# Altium footprint library biblioteca_pcb_micro.PcbLib: 27 footprints (part 2 of 2)
Each footprint in its own frame and in the unit in brackets; x right, y up, seen from the top. Pads: shape width x height; smd on the part's side, far side on the other; paste and mask are expansions set on the pad; w line width, h text height; cw(c..) or ccw(c..) is an arc to the next point about the centre after c.
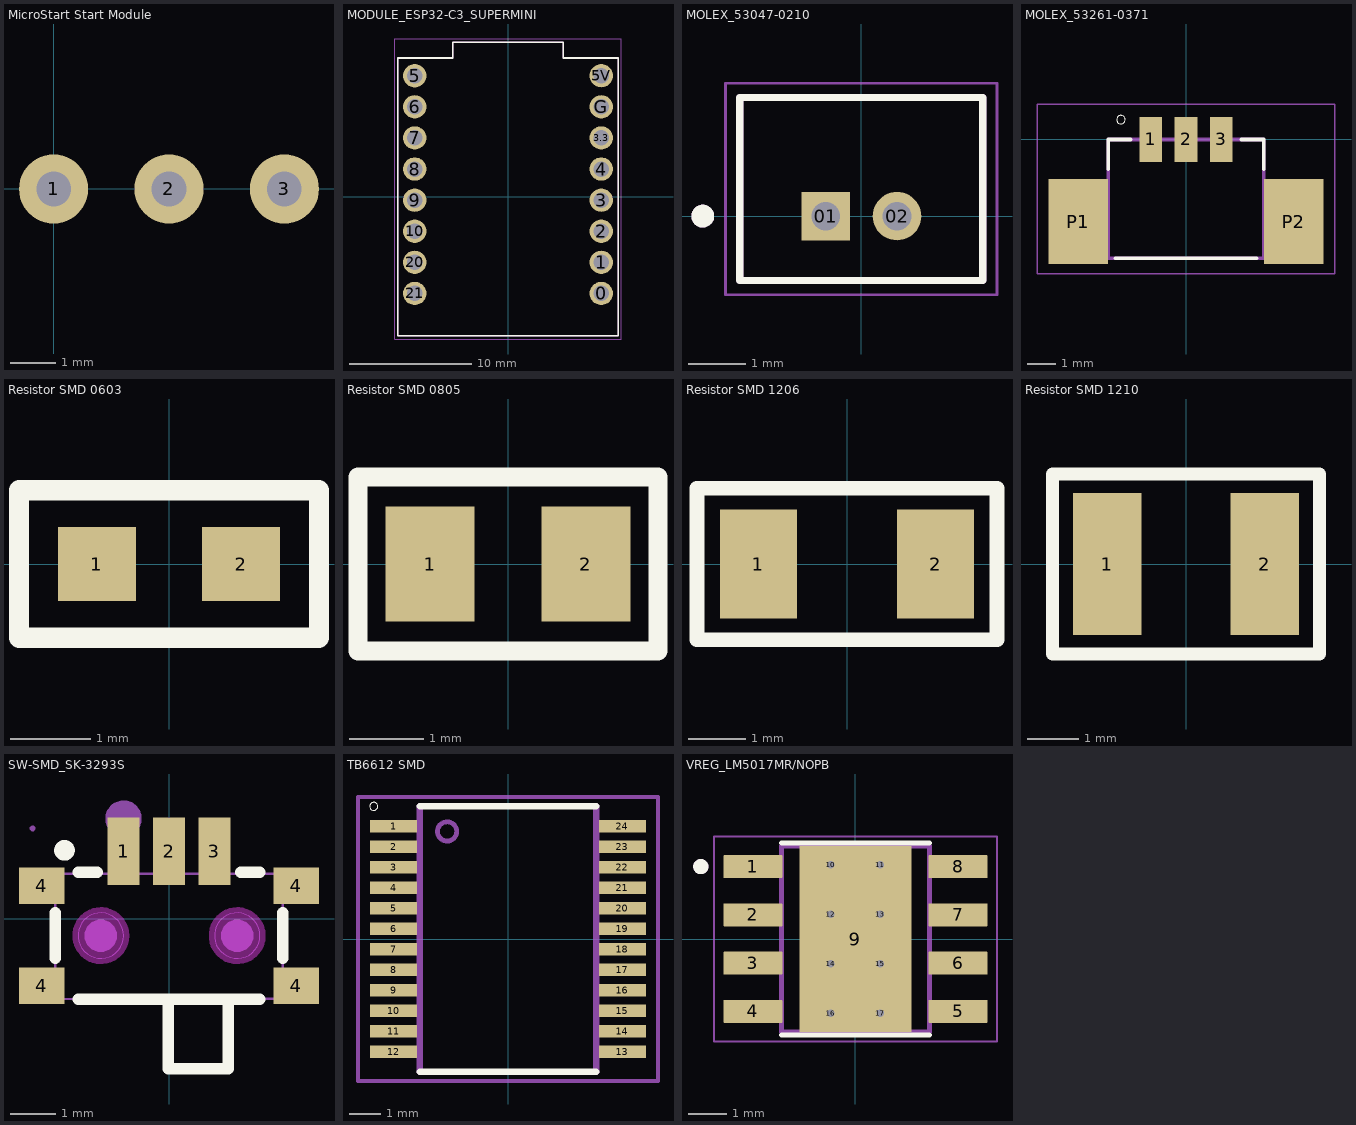
[diagram p1: the footprints below, top view; thin cyan lines are the x and y axes]

## MicroStart Start Module [mil] "Módulo Start da Jsumo"
pads (3):
  round 60 hole 30: 1(0,0) 2(100,0) 3(200,0)
Top Designator:
  text ".Designator" at -261.66,176.05 h60
3D body "microstart-cad.step": height 558.43, standoff 433.07, extent -266.73,-55.75 343.22,447.83
3D body "PBS-3.step": height 334.65, standoff -118.11, extent -50,-50 250,50
3D body "PLS-3.step": height 551.18, standoff 94.49, extent -50,-50 250,50

## MODULE_ESP32-C3_SUPERMINI [mm]
height 4.2
pads (16):
  round 1.905 hole 1.27: 0(7.62,-7.88) 1(7.62,-5.34) 2(7.62,-2.8) 3(7.62,-0.26) 3.3(7.62,4.82) 4(7.62,2.28) 5(-7.62,9.9) 5V(7.62,9.906) 6(-7.62,7.36) 7(-7.62,4.82) 8(-7.62,2.28) 9(-7.62,-0.26) 10(-7.62,-2.8) 20(-7.62,-5.34) 21(-7.62,-7.88) G(7.62,7.36)
Top Overlay:
  lines w0.127: -9,-11.35 -9,11.35 -4.5,11.35 -4.5,12.65 4.5,12.65 4.5,11.35 9,11.35 9,-11.35 -9,-11.35
Mechanical 13:
  lines w0.127: -9,-11.35 -9,11.35 -4.5,11.35 -4.5,12.65 4.5,12.65 4.5,11.35 9,11.35 9,-11.35 -9,-11.35
Mechanical 15:
  lines w0.05: -9.25,-11.6 -9.25,12.9 9.25,12.9 9.25,-11.6 -9.25,-11.6
3D body "1_Dupont_Stiftleiste v6.step": height 8.45, standoff -2.75, extent -8.815,-9.517 -6.425,11.303
3D body "1_Dupont_Stiftleiste v6.step": height 8.45, standoff -2.75, extent 6.298,-9.517 8.688,11.303
3D body "ESP32-C3 SuperMini_TH--3DModel-STEP-56544.STEP": height 12.59, standoff 8.43, extent -8.983,-11.3 9.017,12.7

## MOLEX_53047-0210 [mm]
pads (2):
  rect 0.85x0.85 / inner round 0.85 / far side rect 0.85x0.85 hole 0.5: 01(-0.625,0)
  round 0.85 hole 0.5: 02(0.625,0)
Top Overlay:
  circle w0.2: c-2.775,0 r0.1
  lines w0.127: -2.125,-1.125 2.125,-1.125 2.125,2.075 -2.125,2.075 -2.125,-1.125
Mechanical 13:
  circle w0.2: c-2.775,0 r0.1
  lines w0.127: -2.125,-1.125 2.125,-1.125 2.125,2.075 -2.125,2.075 -2.125,-1.125
Mechanical 15:
  lines w0.05: -2.375,-1.375 2.375,-1.375 2.375,2.325 -2.375,2.325 -2.375,-1.375

## MOLEX_53261-0371 [mm]
pads (5):
  rect 0.8x1.6 smd: 1(-1.25,0) 2(0,0) 3(1.25,0)
  rect 2.1x3 smd: P1(-3.8,-2.9) P2(3.8,-2.9)
Top Overlay:
  circle w0: c-2.3,0.7 r0.15
  lines w0.127: -2.75,-1.05 -2.75,0 -1.95,0 ; -2.5,-4.2 2.5,-4.2 ; 1.95,0 2.75,0 2.75,-1.05
Mechanical 13:
  lines w0.127: -2.75,-4.2 2.75,-4.2 2.75,0 -2.75,0 -2.75,-4.2
Mechanical 15:
  lines w0.05: -5.25,-4.75 5.25,-4.75 5.25,1.25 -5.25,1.25 -5.25,-4.75
3D body "step_temp.STEP": height 0.97, standoff -4.23, extent -4.45,-1.6 4.45,1.8

## Resistor SMD 0603 [mm]
height 0.9
pads (2):
  rect 0.98x0.92 smd: 1(-0.9,0) 2(0.9,0)
Top Overlay:
  lines w0.254: -1.875,-0.923 -1.875,0.923 1.875,0.923 1.875,-0.923 -1.875,-0.923
Top Designator:
  text ".Designator" at -7.618,-0.508 h1.52
3D body "Resistor SMD 0603.STEP": height 0.45, standoff 0, extent -0.8,-0.4 0.8,0.4

## Resistor SMD 0805 [mm]
height 0.9
pads (2):
  rect 1.2x1.55 smd: 1(-1.05,0) 2(1.05,0)
Top Overlay:
  lines w0.254: -2.023,-1.173 -2.023,1.173 2.023,1.173 2.023,-1.173 -2.023,-1.173
Top Designator:
  text ".Designator" at -7.618,-0.508 h1.52
3D body "Resistor SMD 0805.STEP": height 0.55, standoff 0, extent -1,-0.625 1,0.625

## Resistor SMD 1206 [mm]
height 0.9
pads (2):
  rect 1.35x1.9 smd: 1(-1.55,0) 2(1.55,0)
Top Overlay:
  lines w0.254: -2.623,-1.323 -2.623,1.323 2.623,1.323 2.623,-1.323 -2.623,-1.323
Top Designator:
  text ".Designator" at -7.618,-0.508 h1.52
3D body "Resistor SMD 1206.STEP": height 0.55, standoff 0, extent -1.55,-0.775 1.55,0.775

## Resistor SMD 1210 [mm]
height 0.9
pads (2):
  rect 1.35x2.8 smd: 1(-1.55,0) 2(1.55,0)
Top Overlay:
  lines w0.254: -2.623,-1.773 2.623,-1.773 2.623,1.773 -2.623,1.773 -2.623,-1.773
Top Designator:
  text ".Designator" at -7.618,-0.508 h1.52
3D body "Resistor SMD 1210.STEP": height 0.55, standoff 0, extent -1.55,-1.3 1.55,1.3

## SW-SMD_SK-3293S [mm]
pads (7):
  rect 0.7x1.49 smd: 1(-1,1.477) 2(0,1.477) 3(1,1.477)
  rect 1x0.8 smd: 4(-2.8,-1.478) 4(-2.8,0.723) 4(2.8,-1.478) 4(2.8,0.723)
Top Overlay:
  circle w0.254: c-2.3,1.5 r0.1
  lines w0.254: -2.5,-0.877 -2.5,0.123 ; -2,-1.777 2,-1.777 ; -2,1.023 -1.581,1.023 ; -0.018,-1.777 -0.018,-3.3 1.3,-3.3 1.3,-1.777 ; 1.581,1.023 2,1.023 ; 2.5,-0.877 2.5,0.123
Keep-Out Layer:
  board cut-out: -1,-0.377 -1,-0.278 -1.076,-0.094 -1.217,0.046 -1.401,0.123 -1.6,0.123 -1.783,0.046 -1.924,-0.094 -2,-0.278 -2,-0.377 -2,-0.477 -1.924,-0.661 -1.783,-0.801 -1.6,-0.877 -1.401,-0.877 -1.217,-0.801 -1.076,-0.661 -1,-0.477
  board cut-out: 2,-0.377 2,-0.278 1.924,-0.094 1.783,0.046 1.599,0.123 1.4,0.123 1.217,0.046 1.076,-0.094 1,-0.278 1,-0.377 1,-0.477 1.076,-0.661 1.217,-0.801 1.4,-0.877 1.599,-0.877 1.783,-0.801 1.924,-0.661 2,-0.477
Keep-Out Layer:
  circle w0.025: c-1.5,-0.377 r0.5
  circle w0.254: c-1.5,-0.377 r0.5
  circle w0.025: c1.5,-0.377 r0.5
  circle w0.254: c1.5,-0.377 r0.5
Mechanical 1:
  circle w0.025: c-1.5,-0.377 r0.5
  circle w0.025: c1.5,-0.377 r0.5
Mechanical 6:
  circle w0.4: c-1,2.2 r0.2
  region: -1.85,-0.377 -1.85,-0.308 -1.797,-0.179 -1.698,-0.081 -1.57,-0.027 -1.43,-0.027 -1.302,-0.081 -1.203,-0.179 -1.15,-0.308 -1.15,-0.377 -1.15,-0.447 -1.203,-0.576 -1.302,-0.674 -1.43,-0.727 -1.57,-0.727 -1.698,-0.674 -1.797,-0.576 -1.85,-0.447
  region: 1.15,-0.377 1.15,-0.307 1.203,-0.179 1.302,-0.08 1.43,-0.027 1.57,-0.027 1.698,-0.08 1.797,-0.179 1.85,-0.307 1.85,-0.377 1.85,-0.447 1.797,-0.575 1.698,-0.674 1.57,-0.727 1.43,-0.727 1.302,-0.674 1.203,-0.575 1.15,-0.447
Mechanical 15:
  region: -2.94,1.984 -2.94,2.009 -2.975,2.044 -3.025,2.044 -3.06,2.009 -3.06,1.984 -3.06,1.959 -3.025,1.924 -2.975,1.924 -2.94,1.959
  region: -2.51,0.523 -2.51,0.923 -2.39,0.923 -2.39,0.523
  region: -3,0.523 -3,0.923 -2.4,0.923 -2.4,0.523
  region: -2.51,-1.678 -2.51,-1.278 -2.39,-1.278 -2.39,-1.678
  region: -3,-1.678 -3,-1.278 -2.4,-1.278 -2.4,-1.678
  region: 2.39,-1.678 2.39,-1.278 2.51,-1.278 2.51,-1.678
  region: 2.4,-1.678 2.4,-1.278 3,-1.278 3,-1.678
  region: 2.39,0.523 2.39,0.923 2.51,0.923 2.51,0.523
  region: 2.4,0.523 2.4,0.923 3,0.923 3,0.523
  region: -0.8,0.784 -1.2,0.784 -1.2,1.984 -0.8,1.984
  region: 0.2,0.784 -0.2,0.784 -0.2,1.984 0.2,1.984
  region: 1.2,0.784 0.8,0.784 0.8,1.984 1.2,1.984
  lines w0.051: -2.5,-1.765 -0.026,-1.775 -0.026,-3.266 1.273,-3.266 1.273,-1.766 2.5,-1.766 2.5,0.984 -2.5,0.984 -2.5,-1.765

## TB6612 SMD [mm]
pads (24):
  rect 1.5x0.4 smd: 1(-3.625,3.575) 2(-3.625,2.925) 3(-3.625,2.275) 4(-3.625,1.625) 5(-3.625,0.975) 6(-3.625,0.325) 7(-3.625,-0.325) 8(-3.625,-0.975) 9(-3.625,-1.625) 10(-3.625,-2.275) 11(-3.625,-2.925) 12(-3.625,-3.575) 13(3.625,-3.575) 14(3.625,-2.925) 15(3.625,-2.275) 16(3.625,-1.625) 17(3.625,-0.975) 18(3.625,-0.325) 19(3.625,0.325) 20(3.625,0.975) 21(3.625,1.625) 22(3.625,2.275) 23(3.625,2.925) 24(3.625,3.575)
Top Overlay:
  circle w0: c-4.25,4.2 r0.127
  lines w0.203: -2.8,-4.2 2.8,-4.2 ; -2.8,4.2 2.8,4.2
Mechanical 13:
  circle w0.152: c-1.928,3.406 r0.305
  region: 3.8,-2.428 2.804,-2.428 2.804,-2.125 3.8,-2.125
  region: 3.8,1.476 2.803,1.476 2.803,1.775 3.8,1.775
  region: 3.8,-0.476 2.804,-0.476 2.804,-0.175 3.8,-0.175
  region: 3.8,-1.127 2.804,-1.127 2.804,-0.825 3.8,-0.825
  region: 3.8,-1.776 2.802,-1.776 2.802,-1.475 3.8,-1.475
  region: 3.8,-3.08 2.805,-3.08 2.805,-2.775 3.8,-2.775
  region: 3.8,-3.728 2.802,-3.728 2.802,-3.425 3.8,-3.425
  region: 3.8,3.428 2.802,3.428 2.802,3.725 3.8,3.725
  region: 3.8,2.776 2.801,2.776 2.801,3.075 3.8,3.075
  region: 3.8,2.127 2.802,2.127 2.802,2.425 3.8,2.425
  region: 3.8,0.825 2.801,0.825 2.801,1.125 3.8,1.125
  region: 3.8,0.175 2.804,0.175 2.804,0.475 3.8,0.475
  region: -2.8,-3.731 -3.806,-3.731 -3.806,-3.425 -2.8,-3.425
  region: -2.8,-3.079 -3.804,-3.079 -3.804,-2.775 -2.8,-2.775
  region: -2.8,-2.427 -3.803,-2.427 -3.803,-2.125 -2.8,-2.125
  region: -2.8,-1.776 -3.802,-1.776 -3.802,-1.475 -2.8,-1.475
  region: -2.8,-1.126 -3.804,-1.126 -3.804,-0.825 -2.8,-0.825
  region: -2.8,-0.475 -3.804,-0.475 -3.804,-0.175 -2.8,-0.175
  region: -2.8,0.175 -3.805,0.175 -3.805,0.475 -2.8,0.475
  region: -2.8,0.826 -3.805,0.826 -3.805,1.125 -2.8,1.125
  region: -2.8,1.475 -3.8,1.475 -3.8,1.775 -2.8,1.775
  region: -2.8,2.128 -3.806,2.128 -3.806,2.425 -2.8,2.425
  region: -2.8,2.777 -3.802,2.777 -3.802,3.075 -2.8,3.075
  region: -2.8,3.427 -3.803,3.427 -3.803,3.725 -2.8,3.725
  lines w0.203: -2.8,-4.2 -2.8,4.2 ; 2.8,-4.2 2.8,4.2
Mechanical 15:
  lines w0.127: -4.75,-4.5 -4.75,4.5 4.75,4.5 4.75,-4.5 -4.75,-4.5
3D body "step_temp.STEP": height 1.6, standoff 0, extent -3.8,-4.15 3.8,4.15

## VREG_LM5017MR/NOPB [mm]
pads (17):
  rrect5% 1.55x0.6 smd mask+0: 1(-2.7,1.905) 2(-2.7,0.635) 3(-2.7,-0.635) 4(-2.7,-1.905) 5(2.7,-1.905) 6(2.7,-0.635) 7(2.7,0.635) 8(2.7,1.905)
  rect 2.95x4.9 smd paste-3 mask+0: 9(0,0)
  round 0.3 hole 0.2: 10(-0.65,1.95) 11(0.65,1.95) 12(-0.65,0.65) 13(0.65,0.65) 14(-0.65,-0.65) 15(0.65,-0.65) 16(-0.65,-1.95) 17(0.65,-1.95)
Top Overlay:
  circle w0.2: c-4.07,1.905 r0.1
  lines w0.127: -1.95,-2.525 1.95,-2.525 ; -1.95,2.525 1.95,2.525
Top Paste:
  region: 1.355,-1.7 -1.355,-1.7 -1.355,1.7 1.355,1.7
Top Solder:
  drawing of 9 lines, arcs and shapes, not listed
Mechanical 13:
  circle w0.2: c-4.07,1.905 r0.1
  lines w0.127: -1.95,-2.45 1.95,-2.45 1.95,2.45 -1.95,2.45 -1.95,-2.45
Mechanical 15:
  lines w0.05: -3.725,-2.7 3.725,-2.7 3.725,2.7 -3.725,2.7 -3.725,-2.7